# EAGLE library part ULA-TK90 (library tk90)
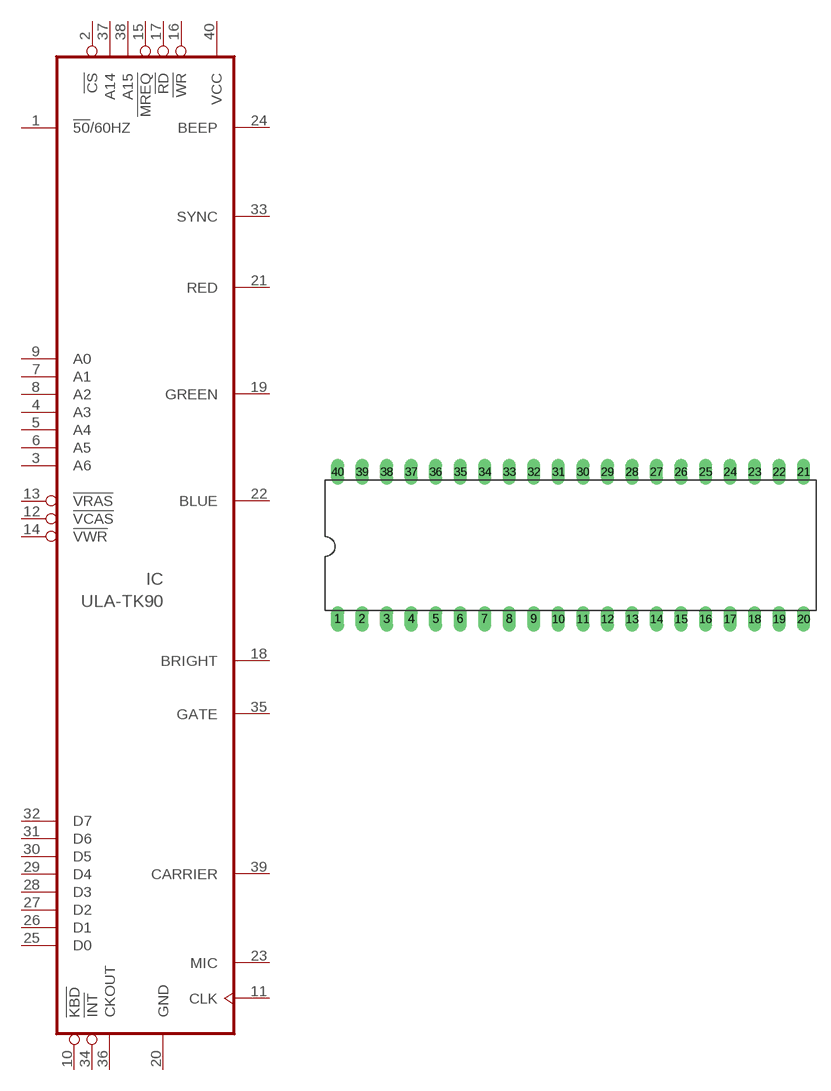
[diagram p14: symbol with the pads of DIL40; footprint DIL40]

Designator prefix IC

## ULA-TK90  [DIL40]
1  !50!/60HZ  in
2  !CS  in
3  A6  out
4  A3  out
5  A4  out
6  A5  out
7  A1  out
8  A2  out
9  A0  out
10  !KBD  out
11  CLK  in
12  !VCAS  out
13  !VRAS  out
14  !VWR  out
15  !MREQ  in
16  !WR  in
17  !RD  in
18  BRIGHT  out
19  GREEN  out
20  GND  pwr
21  RED  out
22  BLUE  out
23  MIC  out
24  BEEP  out
25  D0
26  D1
27  D2
28  D3
29  D4
30  D5
31  D6
32  D7
33  SYNC  out
34  !INT  out
35  GATE  out
36  CKOUT  out
37  A14  in
38  A15  in
39  CARRIER  out
40  VCC  pwr

## Footprint DIL40 (pad centres in mm)
Dual In Line Package
drill 0.813 long: 1 -24.13,-7.62; 2 -21.59,-7.62; 3 -19.05,-7.62; 4 -16.51,-7.62; 5 -13.97,-7.62; 6 -11.43,-7.62; 7 -8.89,-7.62; 8 -6.35,-7.62; 9 -3.81,-7.62; 10 -1.27,-7.62; 11 1.27,-7.62; 12 3.81,-7.62; 13 6.35,-7.62; 14 8.89,-7.62; 15 11.43,-7.62; 16 13.97,-7.62; 17 16.51,-7.62; 18 19.05,-7.62; 19 21.59,-7.62; 20 24.13,-7.62; 21 24.13,7.62; 22 21.59,7.62; 23 19.05,7.62; 24 16.51,7.62; 25 13.97,7.62; 26 11.43,7.62; 27 8.89,7.62; 28 6.35,7.62; 29 3.81,7.62; 30 1.27,7.62; 31 -1.27,7.62; 32 -3.81,7.62; 33 -6.35,7.62; 34 -8.89,7.62; 35 -11.43,7.62; 36 -13.97,7.62; 37 -16.51,7.62; 38 -19.05,7.62; 39 -21.59,7.62; 40 -24.13,7.62